# EAGLE library part TRF3765 (library TRF3756)
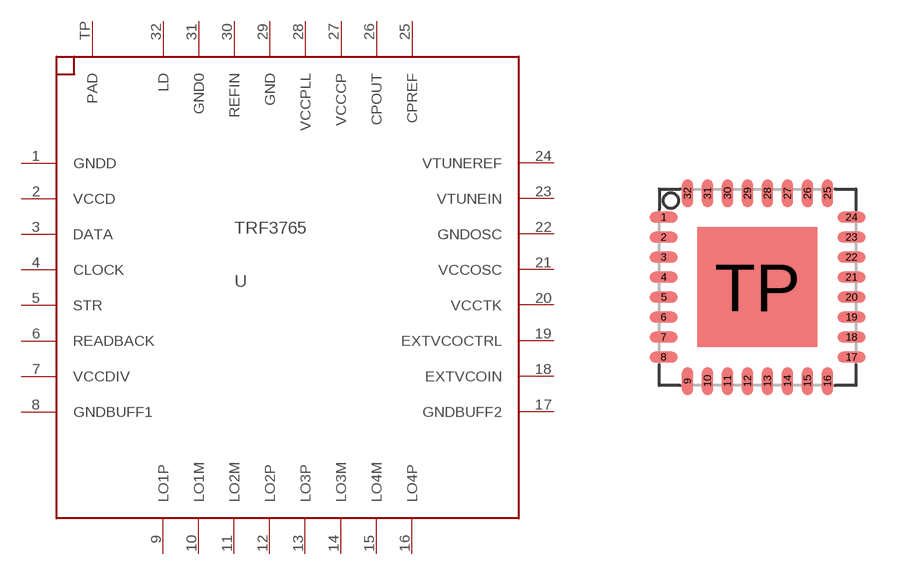
[diagram p0: symbol with the pads of RHB32; footprint RHB32]

Designator prefix -

## TRF3765  [RHB32]
1  GNDD
2  VCCD
3  DATA
4  CLOCK
5  STR
6  READBACK
7  VCCDIV
8  GNDBUFF1
9  LO1P
10  LO1M
11  LO2M
12  LO2P
13  LO3P
14  LO3M
15  LO4M
16  LO4P
17  GNDBUFF2
18  EXTVCOIN
19  EXTVCOCTRL
20  VCCTK
21  VCCOSC
22  GNDOSC
23  VTUNEIN
24  VTUNEREF
25  CPREF
26  CPOUT
27  VCCCP
28  VCCPLL
29  GND
30  REFIN
31  GND0
32  LD
TP  PAD

## Footprint RHB32 (pad centres in mm)
smd 0.7 x 0.28: 1 -2.35,1.75; 2 -2.35,1.25; 3 -2.35,0.75; 4 -2.35,0.25; 5 -2.35,-0.25; 6 -2.35,-0.75; 7 -2.35,-1.25; 8 -2.35,-1.75; 17 2.35,-1.75; 18 2.35,-1.25; 19 2.35,-0.75; 20 2.35,-0.25; 21 2.35,0.25; 22 2.35,0.75; 23 2.35,1.25; 24 2.35,1.75
smd 0.28 x 0.7: 9 -1.75,-2.35; 10 -1.25,-2.35; 11 -0.75,-2.35; 12 -0.25,-2.35; 13 0.25,-2.35; 14 0.75,-2.35; 15 1.25,-2.35; 16 1.75,-2.35; 25 1.75,2.35; 26 1.25,2.35; 27 0.75,2.35; 28 0.25,2.35; 29 -0.25,2.35; 30 -0.75,2.35; 31 -1.25,2.35; 32 -1.75,2.35
smd 3 x 3: TP 0,0